# Altium schematic symbol library Connectors.SchLib: 43 symbols
Pins are listed as number, name and electrical type; pins without a type are passive.

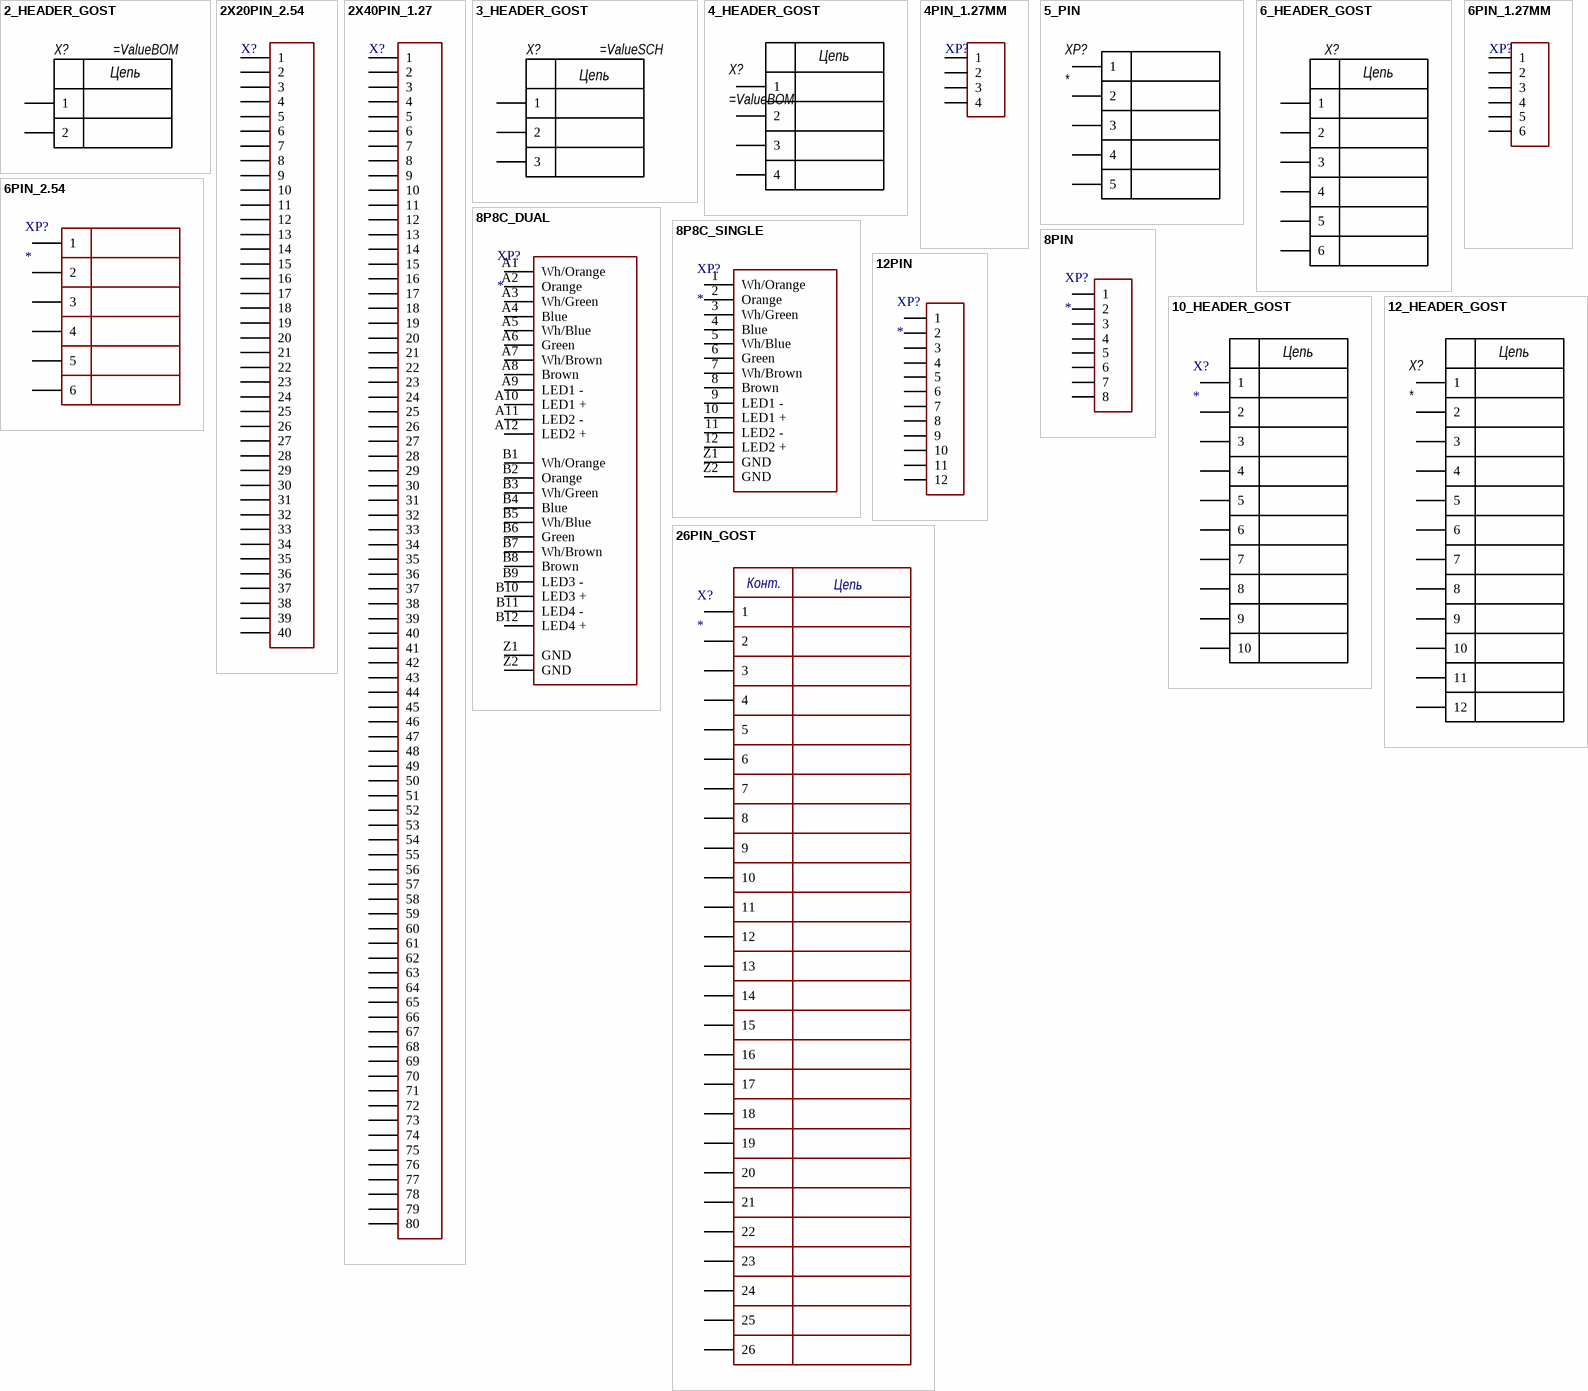
[diagram p0: symbols 2_HEADER_GOST to 26PIN_GOST]

## 2_HEADER_GOST
designator X?
pins: 1, 2
text: Цепь

## 2X20PIN_2.54
designator X?
pins: 1, 2, 3, 4, 5, 6, 7, 8, 9, 10, 11, 12, 13, 14, 15, 16, 17, 18, 19, 20, 21, 22, 23, 24, 25, 26, 27, 28, 29, 30, 31, 32, 33, 34, 35, 36, 37, 38, 39, 40

## 2X40PIN_1.27
designator X?
pins: 1, 2, 3, 4, 5, 6, 7, 8, 9, 10, 11, 12, 13, 14, 15, 16, 17, 18, 19, 20, 21, 22, 23, 24, 25, 26, 27, 28, 29, 30, 31, 32, 33, 34, 35, 36, 37, 38, 39, 40, 41, 42, 43, 44, 45, 46, 47, 48, 49, 50, 51, 52, 53, 54, 55, 56, 57, 58, 59, 60, 61, 62, 63, 64, 65, 66, 67, 68, 69, 70, 71, 72, 73, 74, 75, 76, 77, 78, 79, 80

## 3_HEADER_GOST
designator X?
pins: 1, 2, 3
text: Цепь

## 4_HEADER_GOST
designator X?
pins: 1, 2, 3, 4
text: Цепь

## 4PIN_1.27MM
designator XP?
pins: 1, 2, 3, 4

## 5_PIN
designator XP?
pins: 1, 2, 3, 4, 5

## 6_HEADER_GOST
designator X?  (value not drawn)
pins: 1, 2, 3, 4, 5, 6
text: Цепь

## 6PIN_1.27MM
designator XP?
pins: 1, 2, 3, 4, 5, 6

## 6PIN_2.54
designator XP?
pins: 1, 2, 3, 4, 5, 6

## 8P8C_DUAL
designator XP?
pins: A1 Wh/Orange, A2 Orange, A3 Wh/Green, A4 Blue, A5 Wh/Blue, A6 Green, A7 Wh/Brown, A8 Brown, A9 LED1 -, A10 LED1 +, A11 LED2 -, A12 LED2 +, B1 Wh/Orange, B2 Orange, B3 Wh/Green, B4 Blue, B5 Wh/Blue, B6 Green, B7 Wh/Brown, B8 Brown, B9 LED3 -, B10 LED3 +, B11 LED4 -, B12 LED4 +, Z1 GND, Z2 GND

## 8P8C_SINGLE
designator XP?
pins: 1 Wh/Orange, 2 Orange, 3 Wh/Green, 4 Blue, 5 Wh/Blue, 6 Green, 7 Wh/Brown, 8 Brown, 9 LED1 -, 10 LED1 +, 11 LED2 -, 12 LED2 +, Z1 GND, Z2 GND

## 8PIN
designator XP?
pins: 1, 2, 3, 4, 5, 6, 7, 8

## 10_HEADER_GOST
designator X?
pins: 1, 2, 3, 4, 5, 6, 7, 8, 9, 10
text: Цепь

## 12_HEADER_GOST
designator X?
pins: 1, 2, 3, 4, 5, 6, 7, 8, 9, 10, 11, 12
text: Цепь

## 12PIN
designator XP?
pins: 1, 2, 3, 4, 5, 6, 7, 8, 9, 10, 11, 12

## 26PIN_GOST
designator X?
pins: 1, 2, 3, 4, 5, 6, 7, 8, 9, 10, 11, 12, 13, 14, 15, 16, 17, 18, 19, 20, 21, 22, 23, 24, 25, 26
text: Конт.; Цепь

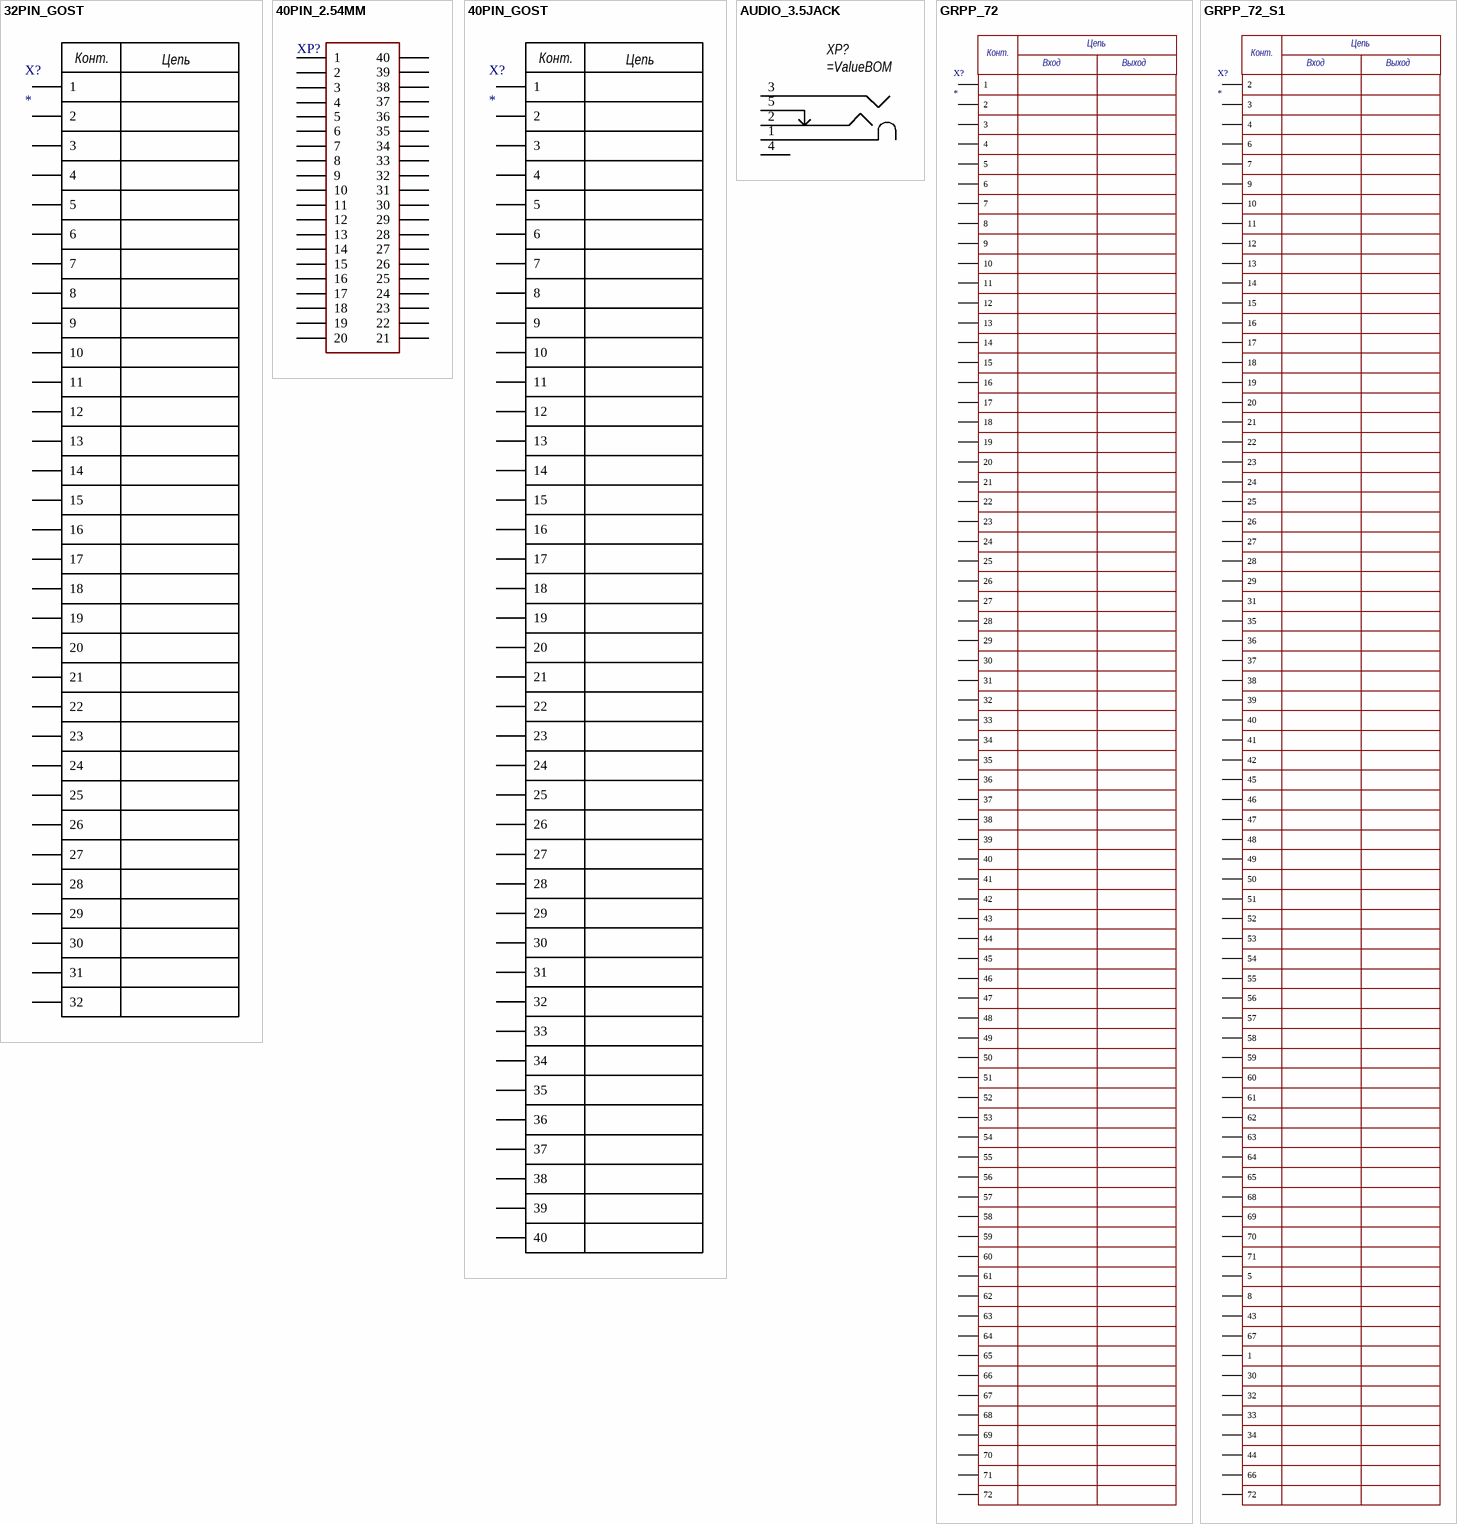
[diagram p1: symbols 32PIN_GOST to GRPP_72_S1]

## 32PIN_GOST
designator X?
pins: 1, 2, 3, 4, 5, 6, 7, 8, 9, 10, 11, 12, 13, 14, 15, 16, 17, 18, 19, 20, 21, 22, 23, 24, 25, 26, 27, 28, 29, 30, 31, 32
text: Конт.; Цепь

## 40PIN_2.54MM
designator XP?
pins: 1, 2, 3, 4, 5, 6, 7, 8, 9, 10, 11, 12, 13, 14, 15, 16, 17, 18, 19, 20, 21, 22, 23, 24, 25, 26, 27, 28, 29, 30, 31, 32, 33, 34, 35, 36, 37, 38, 39, 40

## 40PIN_GOST
designator X?
pins: 1, 2, 3, 4, 5, 6, 7, 8, 9, 10, 11, 12, 13, 14, 15, 16, 17, 18, 19, 20, 21, 22, 23, 24, 25, 26, 27, 28, 29, 30, 31, 32, 33, 34, 35, 36, 37, 38, 39, 40
text: Конт.; Цепь

## AUDIO_3.5JACK
designator XP?
pins: 1, 2, 3, 4, 5

## GRPP_72
designator X?
pins: 1, 2, 3, 4, 5, 6, 7, 8, 9, 10, 11, 12, 13, 14, 15, 16, 17, 18, 19, 20, 21, 22, 23, 24, 25, 26, 27, 28, 29, 30, 31, 32, 33, 34, 35, 36, 37, 38, 39, 40, 41, 42, 43, 44, 45, 46, 47, 48, 49, 50, 51, 52, 53, 54, 55, 56, 57, 58, 59, 60, 61, 62, 63, 64, 65, 66, 67, 68, 69, 70, 71, 72
text: Цепь; Конт.; Вход; Выход

## GRPP_72_S1
designator X?
pins: 1, 2, 3, 4, 5, 6, 7, 8, 9, 10, 11, 12, 13, 14, 15, 16, 17, 18, 19, 20, 21, 22, 23, 24, 25, 26, 27, 28, 29, 30, 31, 32, 33, 34, 35, 36, 37, 38, 39, 40, 41, 42, 43, 44, 45, 46, 47, 48, 49, 50, 51, 52, 53, 54, 55, 56, 57, 58, 59, 60, 61, 62, 63, 64, 65, 66, 67, 68, 69, 70, 71, 72
text: Цепь; Конт.; Вход; Выход

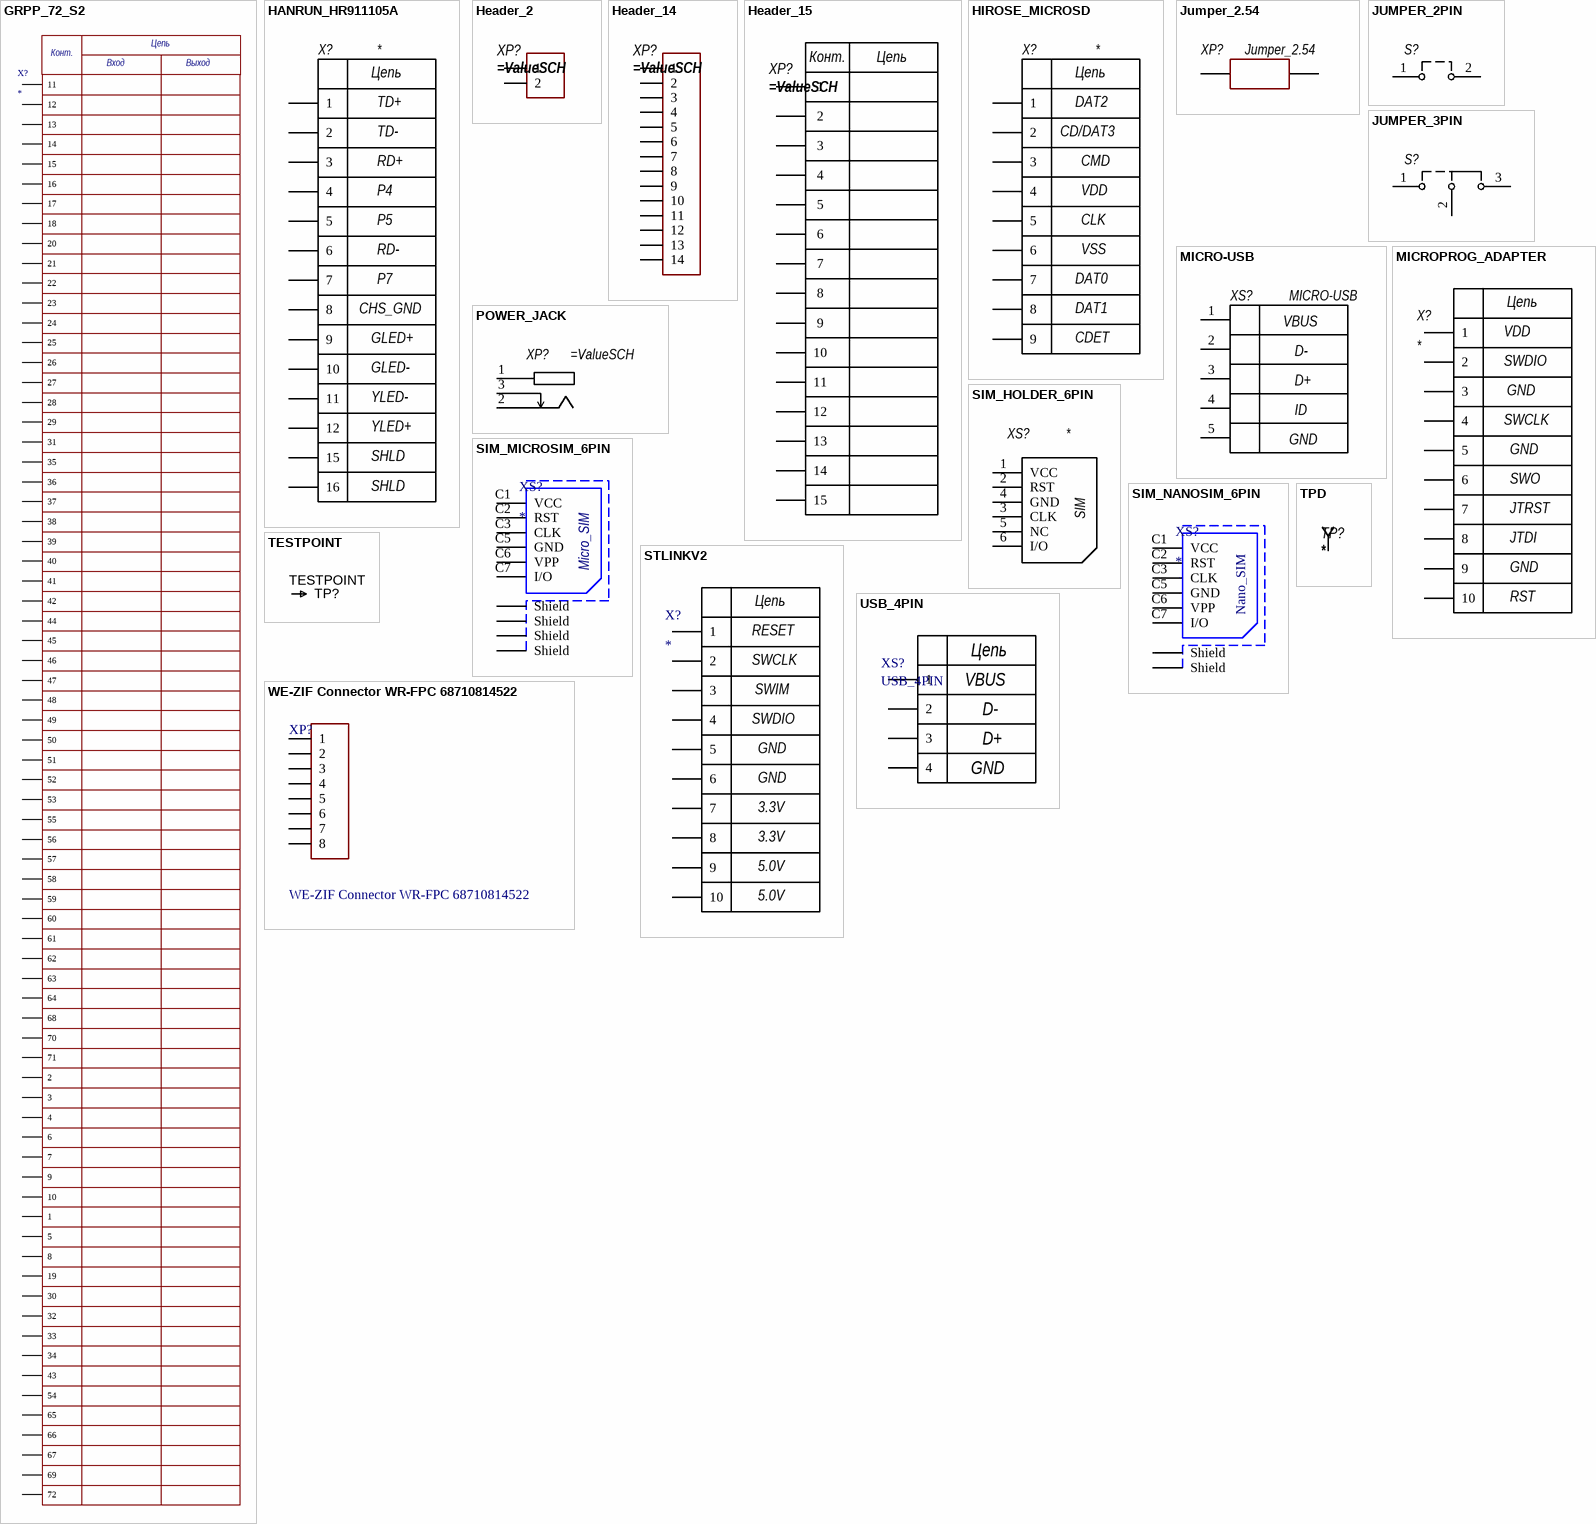
[diagram p2: symbols GRPP_72_S2 to WE-ZIF Connector WR-FPC 68710814522]

## GRPP_72_S2
designator X?
pins: 1, 2, 3, 4, 5, 6, 7, 8, 9, 10, 11, 12, 13, 14, 15, 16, 17, 18, 19, 20, 21, 22, 23, 24, 25, 26, 27, 28, 29, 30, 31, 32, 33, 34, 35, 36, 37, 38, 39, 40, 41, 42, 43, 44, 45, 46, 47, 48, 49, 50, 51, 52, 53, 54, 55, 56, 57, 58, 59, 60, 61, 62, 63, 64, 65, 66, 67, 68, 69, 70, 71, 72
text: Цепь; Конт.; Вход; Выход

## HANRUN_HR911105A
designator X?
pins: 1, 2, 3, 4, 5, 6, 7, 8, 9, 10, 11, 12, 15, 16
text: Цепь; TD+; TD-; RD+; P4; P5; RD-; P7; CHS_GND; GLED+; GLED-; YLED-; YLED+; SHLD

## Header_2
designator XP?
pins: 1, 2

## Header_14
designator XP?
pins: 1, 2, 3, 4, 5, 6, 7, 8, 9, 10, 11, 12, 13, 14

## Header_15
designator XP?
pins: 1  1, 2  2, 3  3, 4  4, 5  5, 6  6, 7  7, 8  8, 9  9, 10, 11, 12, 13, 14, 15
text: Конт.; Цепь

## HIROSE_MICROSD
designator X?
pins: 1, 2, 3, 4, 5, 6, 7, 8, 9, Z 10 hidden to GND
text: Цепь; DAT2; CD/DAT3; CMD; VDD; CLK; VSS; DAT0; DAT1; CDET

## Jumper_2.54
designator XP?
pins: 1, 2

## JUMPER_2PIN
designator S?
pins: 1, 2

## JUMPER_3PIN
designator S?
pins: 1, 2, 3

## MICRO-USB
designator XS?
pins: 1 VBUS, 2 D-, 3 D+, 4 ID, 5 GND

## MICROPROG_ADAPTER
designator X?
pins: 1, 2, 3, 4, 5, 6, 7, 8, 9, 10
text: Цепь; VDD; SWDIO; GND; SWCLK; SWO; JTRST; JTDI; RST

## POWER_JACK
designator XP?
pins: 1, 2, 3

## SIM_HOLDER_6PIN
designator XS?
pins: 1 VCC, 2 RST, 3 CLK, 4 GND, 5 NC, 6 I/O
text: SIM

## SIM_MICROSIM_6PIN
designator XS?
Micro sim; Manufacturer: WЁ№rth Elektronik eiSos GmbH; partNo: 693043020611; ComponentLink1 Description: Manufacturer; ComponentLink2 Description: Datasheet; NoPins: 6; ComponentLink1URL: http://www.we-online.de; ComponentLink2URL: http://katalog.we-online.de/em/datasheet/693043020611.pdf; Created by: Karrer Zheng; Created Date: 10/20/2014
footprint 693043020611
pins: C1 VCC, C2 RST, C3 CLK, C5 GND, C6 VPP, C7 I/O, Z1 Shield, Z2 Shield, Z3 Shield, Z4 Shield
text: Micro_SIM

## SIM_NANOSIM_6PIN
designator XS?
WE-Card Connectors 693043020611; Manufacturer: WЁ№rth Elektronik eiSos GmbH; ComponentLink1 Description: Manufacturer; ComponentLink2 Description: Datasheet; NoPins: 6; ComponentLink1URL: http://www.we-online.de; ComponentLink2URL: http://katalog.we-online.de/em/datasheet/693043020611.pdf; Created by: Karrer Zheng; Created Date: 10/20/2014; partNo: 693043020611
footprint 693043020611
pins: C1 VCC, C2 RST, C3 CLK, C5 GND, C6 VPP, C7 I/O, Z1 Shield, Z2 Shield
text: Nano_SIM

## STLINKV2
designator X?
pins: 1, 2, 3, 4, 5, 6, 7, 8, 9, 10
text: Цепь; RESET; SWCLK; SWIM; SWDIO; GND; 3.3V; 5.0V

## TESTPOINT
designator TP?  (no BOM)
SMD test pin
footprint TP-R60
footprint THP_D38_T75_B75 (Thru-Hole Pad with 75mil top and 75mil bottom annular rings)
footprint TP-R30
footprint TP-R40
footprint TP-R20
pins: 1

## TPD
designator TP?
footprint TPD
pins: 1

## USB_4PIN
designator XS?
pins: 1, 2, 3, 4
text: Цепь; VBUS; D-; D+; GND

## WE-ZIF Connector WR-FPC 68710814522
designator XP?
WR-FPC 0.50mm SMT ZIF Horizontal Bottom Contact; Manufacturer: WЁ№rth Elektronik eiSos GmbH; ComponentLink1 Description: Manufacturer; ComponentLink2 Description: Datasheet; NoPins: 08; Created Date: 28 October 2013; partNo: 68710814522; ComponentLink1URL: http://www.we-online.com; ComponentLink2URL: http://katalog.we-online.de/em/datasheet/6871xx14522.pdf; Created by: Karrer Zheng
footprint 68710814522 (08 pins)
pins: 1, 2, 3, 4, 5, 6, 7, 8